# Altium schematic symbol library LAB3.SchLib: 1 symbol
Pins are listed as number, name and electrical type; pins without a type are passive.

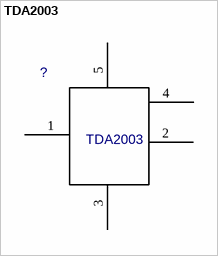
[diagram p0: symbol TDA2003]

## TDA2003
designator ?
Value: *
footprint TDA2003
pins: 1, 2, 3, 4, 5